# Altium schematic symbol library FFSB3065B-F085.SchLib: 1 symbol
Pins are listed as number, name and electrical type; pins without a type are passive.

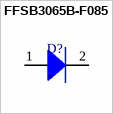
[diagram p0: symbol FFSB3065B-F085]

## FFSB3065B-F085
designator D?
pins: 1 A, 2 K